# Altium schematic symbol library LTR-303ALS-01.SchLib: 1 symbol
Pins are listed as number, name and electrical type; pins without a type are passive.

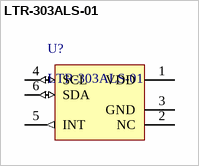
[diagram p0: symbol LTR-303ALS-01]

## LTR-303ALS-01
designator U?
pins: 1 VDD (power), 2 NC, 3 GND (power), 4 SCL (io), 5 INT (out), 6 SDA (io)